# Altium footprint library T521X336M050ATE075.PcbLib: 2 footprints
Each footprint in its own frame and in the unit in brackets; x right, y up, seen from the top. Pads: shape width x height; smd on the part's side, far side on the other; paste and mask are expansions set on the pad; w line width, h text height; cw(c..) or ccw(c..) is an arc to the next point about the centre after c.
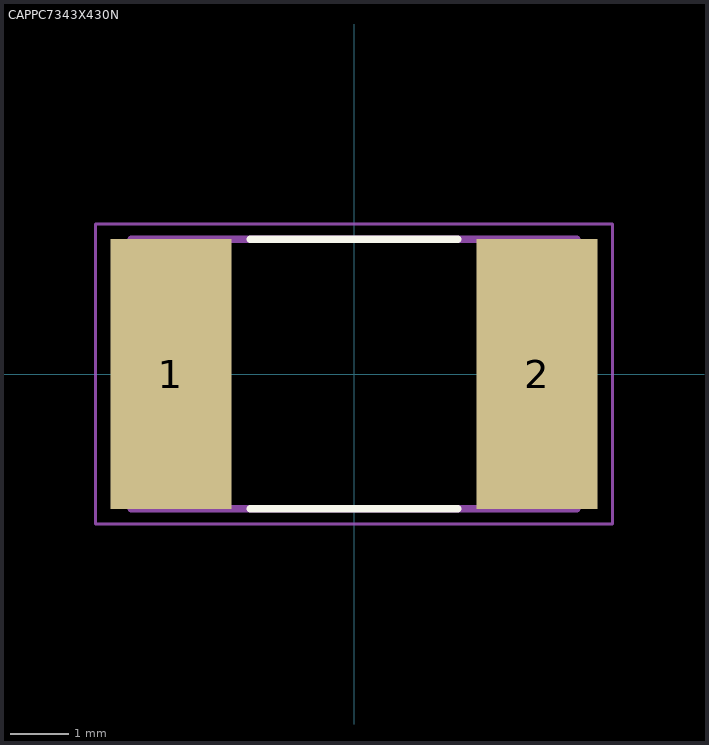
[diagram p0: the footprints below, top view; thin cyan lines are the x and y axes]

## CAPPC7343X430N [mm]
pads (2):
  rect 2.07x4.61 smd: 1(-3.121,0) 2(3.121,0)
Top Overlay:
  lines w0.127: -1.77,-2.3 1.77,-2.3 ; -1.77,2.3 1.77,2.3
Mechanical 13:
  lines w0.127: -3.8,-2.3 -3.8,2.3 ; -3.8,-2.3 3.8,-2.3 ; -3.8,-2.3 -3.8,2.3 ; -3.8,-2.3 3.8,-2.3 ; -3.8,2.3 3.8,2.3 ; -3.8,2.3 3.8,2.3 ; 3.8,-2.3 3.8,2.3 ; 3.8,-2.3 3.8,2.3
Mechanical 15:
  lines w0.05: -4.405,-2.555 4.405,-2.555 4.405,2.555 -4.405,2.555 -4.405,-2.555

## PCBComponent_1 [mm]